# Altium footprint library electromecanique.PcbLib: 11 footprints
Each footprint in its own frame and in the unit in brackets; x right, y up, seen from the top. Pads: shape width x height; smd on the part's side, far side on the other; paste and mask are expansions set on the pad; w line width, h text height; cw(c..) or ccw(c..) is an arc to the next point about the centre after c.
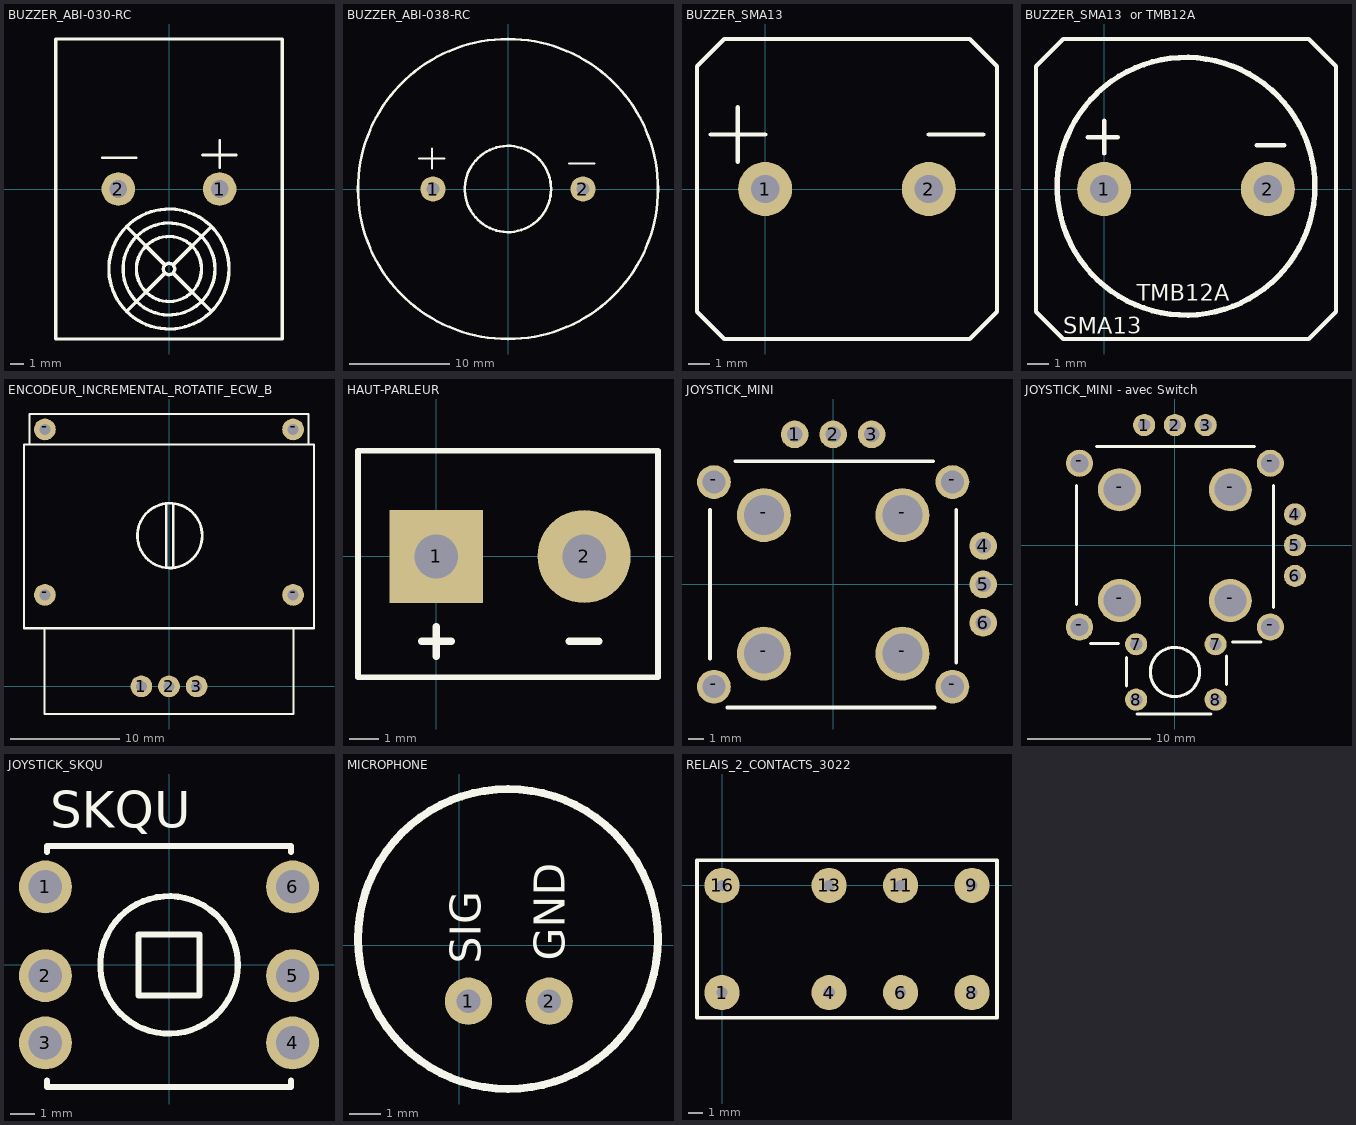
[diagram p0: the footprints below, top view; thin cyan lines are the x and y axes]

## BUZZER_ABI-030-RC [mil] "BUZZER ; DIMENSIONS:  ; ESPACEMENT BROCHES : mm"
height 748.03
pads (2):
  round 99 hole 52: 1(149.61,0) 2(-149.61,0)
Top Overlay:
  circle w10: c0,-236.22 r16.7
  circle w10: c0,-236.22 r96.11
  circle w10: c0,-236.22 r135.76
  circle w10: c-0.04,-236.22 r177.21
  lines w8: -197.01,92.13 -97.01,92.13 ; 98.82,100.31 198.82,100.31 ; 149.61,62.99 149.61,142.99
  lines w10: -122.05,-358.27 -11.81,-248.03 ; -122.05,-114.17 -11.81,-224.41 ; 11.81,-248.03 122.05,-358.27 ; 11.81,-224.41 122.05,-114.17 ; -334.65,-442.91 334.65,-442.91 334.65,442.91 -334.65,442.91 -334.65,-442.91

## BUZZER_ABI-038-RC [mil] "BUZZER ; DIAMETRE:30mm ; ESPACEMENT BROCHES : 15mm"
height 748.03
pads (2):
  round 99 hole 52: 1(-295.28,0) 2(295.28,0)
Top Overlay:
  circle w10: c0,0 r169.71
  circle w10: c0,0 r590.55
  lines w8: -350,120 -250,120 ; -300,80 -300,160 ; 240,100 340,100

## BUZZER_SMA13 [mil] "BUZZER SMA13 ; DIMENSIONS :13.96mm x 13.96mm ; ESPACEMENT BROCHES : 7.62mm"
height 236.22
pads (2):
  round 99 hole 52: 1(0,0) 2(300,0)
Top Overlay:
  lines w8: -100,100 0,100 ; -50,50 -50,150 ; 300,100 400,100 ; -125,-225 -125,225 -75,275 375,275 425,225 425,-225 375,-275 -75,-275 -125,-225
3D body "buzzer sma13.STEP": height 256.3, standoff -255.91, extent -125.98,-275.59 425.2,275.59

## BUZZER_SMA13  or TMB12A [mil] "BUZZER SMA13 ; DIMENSIONS :13.96mm x 13.96mm ; ESPACEMENT BROCHES : 7.62mm"
height 236.22
pads (2):
  round 99 hole 52: 1(0,0) 2(300,0)
Top Overlay:
  circle w10: c150,5 r236.22
  lines w8: -30,95 25,95 ; 0,65 0,125 ; 280,80 330,80 ; -125,-225 -125,225 -75,275 375,275 425,225 425,-225 375,-275 -75,-275 -125,-225
  text "SMA13" at -75,-265 h30
  text "TMB12A" at 60,-205 h30
3D body "TMB12Axx.STEP": height 374.02, standoff -118.11, extent -81.22,-236.21 391.23,236.23
3D body "buzzer sma13.STEP": height 256.3, standoff -255.91, extent -125.98,-275.59 425.2,275.59

## ENCODEUR_INCREMENTAL_ROTATIF_ECW_B [mm] "ENCODEUR INCREMENTAL ROTATIF ECW 24 TOURS MODELE B; DIMENSIONS : 22.2mm x 28.49mm"
height 27.51
pads (7):
  round 2 hole 1: 1(-2.54,0) 2(0,0) 3(2.54,0) -(-11.4,8.4) -(-11.4,23.6) -(11.4,8.4) -(11.4,23.6)
Top Overlay:
  circle w0.254: c0.072,13.843 r2.976
  lines w0.2: -12.827,22.225 -12.827,25.019 12.827,25.019 12.827,22.225 ; -11.43,5.334 -11.43,-2.54 11.43,-2.54 11.43,5.334 ; -13.335,5.334 -13.335,22.225 13.335,22.225 13.335,5.334 -13.335,5.334
  lines w0.254: -0.254,10.922 -0.254,16.764 ; 0.381,10.922 0.381,16.764

## HAUT-PARLEUR [mm]
height 10
pads (2):
  rect 3.2x3.2 hole 1.5: 1(0,0)
  round 3.2 hole 1.5: 2(5.08,0)
Top Overlay:
  lines w0.2: -2.69,-4.15 -2.69,-1.42 -2.69,0.358 -2.69,3.63 0.815,3.63 7.62,3.63 7.62,-4.15 -2.69,-4.15
  lines w0.254: -0.508,-2.921 0.508,-2.921 ; 0,-3.429 0,-2.413 ; 4.572,-2.921 5.588,-2.921

## JOYSTICK_MINI [mm] "JOYSTICK POTENTIOMETRIQUE MINIATURE - RKJXK122000D - 22.7mmx20.7mm"
height 19.3
pads (14):
  round 1.8 hole 1: 1(-2.5,9.75) 2(0,9.75) 3(2.5,9.75) 4(9.75,2.5) 5(9.75,0) 6(9.75,-2.5)
  round 2.2 hole 1.5: -(-7.75,-6.65) -(-7.75,6.65) -(7.75,-6.65) -(7.75,6.65)
  round 3.5 hole 2.6: -(-4.5,-4.5) -(-4.5,4.5) -(4.5,-4.5) -(4.5,4.5)
Top Overlay:
  lines w0.254: -8.001,-4.826 -8.001,4.826 ; -6.858,-8.001 6.604,-8.001 ; -6.35,8.001 6.477,8.001 ; 8,-5.08 8,4.826

## JOYSTICK_MINI - avec Switch [mm] "JOYSTICK POTENTIOMETRIQUE MINIATURE - RKJXK122000D - 22.7mmx20.7mm"
height 19.3
pads (18):
  round 1.8 hole 1: 1(-2.5,9.75) 2(0,9.75) 3(2.5,9.75) 4(9.75,2.5) 5(9.75,0) 6(9.75,-2.5) 7(-3.15,-8.05) 7(3.3,-8.05) 8(-3.15,-12.55) 8(3.3,-12.55)
  round 2.2 hole 1.5: -(-7.75,-6.65) -(-7.75,6.65) -(7.75,-6.65) -(7.75,6.65)
  round 3.5 hole 2.6: -(-4.5,-4.5) -(-4.5,4.5) -(4.5,-4.5) -(4.5,4.5)
Top Overlay:
  circle w0.254: c0,-10.3 r2
  lines w0.254: -8.001,-4.826 -8.001,4.826 ; -6.858,-8.001 -4.572,-8.001 ; -6.35,8.001 6.477,8.001 ; -3.937,-11.43 -3.937,-9.144 ; -3.079,-13.716 2.921,-13.716 ; 4.191,-11.303 4.191,-9.017 ; 4.699,-7.874 6.985,-7.874 ; 8,-5.08 8,4.826
3D body "Joystick.STEP": height 30.16, standoff 0.04, extent -13.391,-14.614 13.609,13.561

## JOYSTICK_SKQU [mm]
pads (6):
  round 2.2 hole 1.4: 1(-5.15,3.25) 2(-5.15,-0.45) 3(-5.15,-3.25) 4(5.15,-3.25) 5(5.15,-0.45) 6(5.15,3.25)
Top Overlay:
  circle w0.254: c0,0 r2.865
  lines w0.254: -5.08,-4.826 -5.08,-5.08 5.08,-5.08 5.08,-4.826 ; -5.08,4.699 -5.08,4.953 5.08,4.953 5.08,4.699 ; -1.27,-1.27 1.27,-1.27 1.27,1.27 -1.27,1.27 -1.27,-1.27
  text "SKQU" at -4.953,5.715 h1.52

## MICROPHONE [mil]
pads (2):
  round 60 hole 30: 1(11.81,-70.87) 2(114.17,-70.87)
Top Overlay:
  circle w10: c61.93,7.87 r190.04
  text "GND" at 133.86,-19.68 h39.37
  text "SIG" at 27.56,-23.62 h39.37
3D body "User Library-Panasonic_Microphone_WM52BM.STEP": height 194.88, standoff -166.04, extent -127.95,-185.04 253.94,196.85

## RELAIS_2_CONTACTS_3022 [mil] "Relay; Mini; 2R/2T; 20 mm x 10 mm; Pin Spacing= 7.62mm/5.08mm"
height 448.82
pads (8):
  round 98.43 hole 31.5: 1(0,-300) 4(300,-300) 6(500,-300) 8(700,-300) 9(700,0) 11(500,0) 13(300,0) 16(0,0)
Top Overlay:
  lines w10: -70,-370 -70,70 770,70 770,-370 -70,-370
3D body "relai miniature.STEP": height 484.25, standoff -118.11, extent -60,-340 758.9,45.83